# Altium schematic symbol library Schlib.SchLib: 35 symbols
Pins are listed as number, name and electrical type; pins without a type are passive.

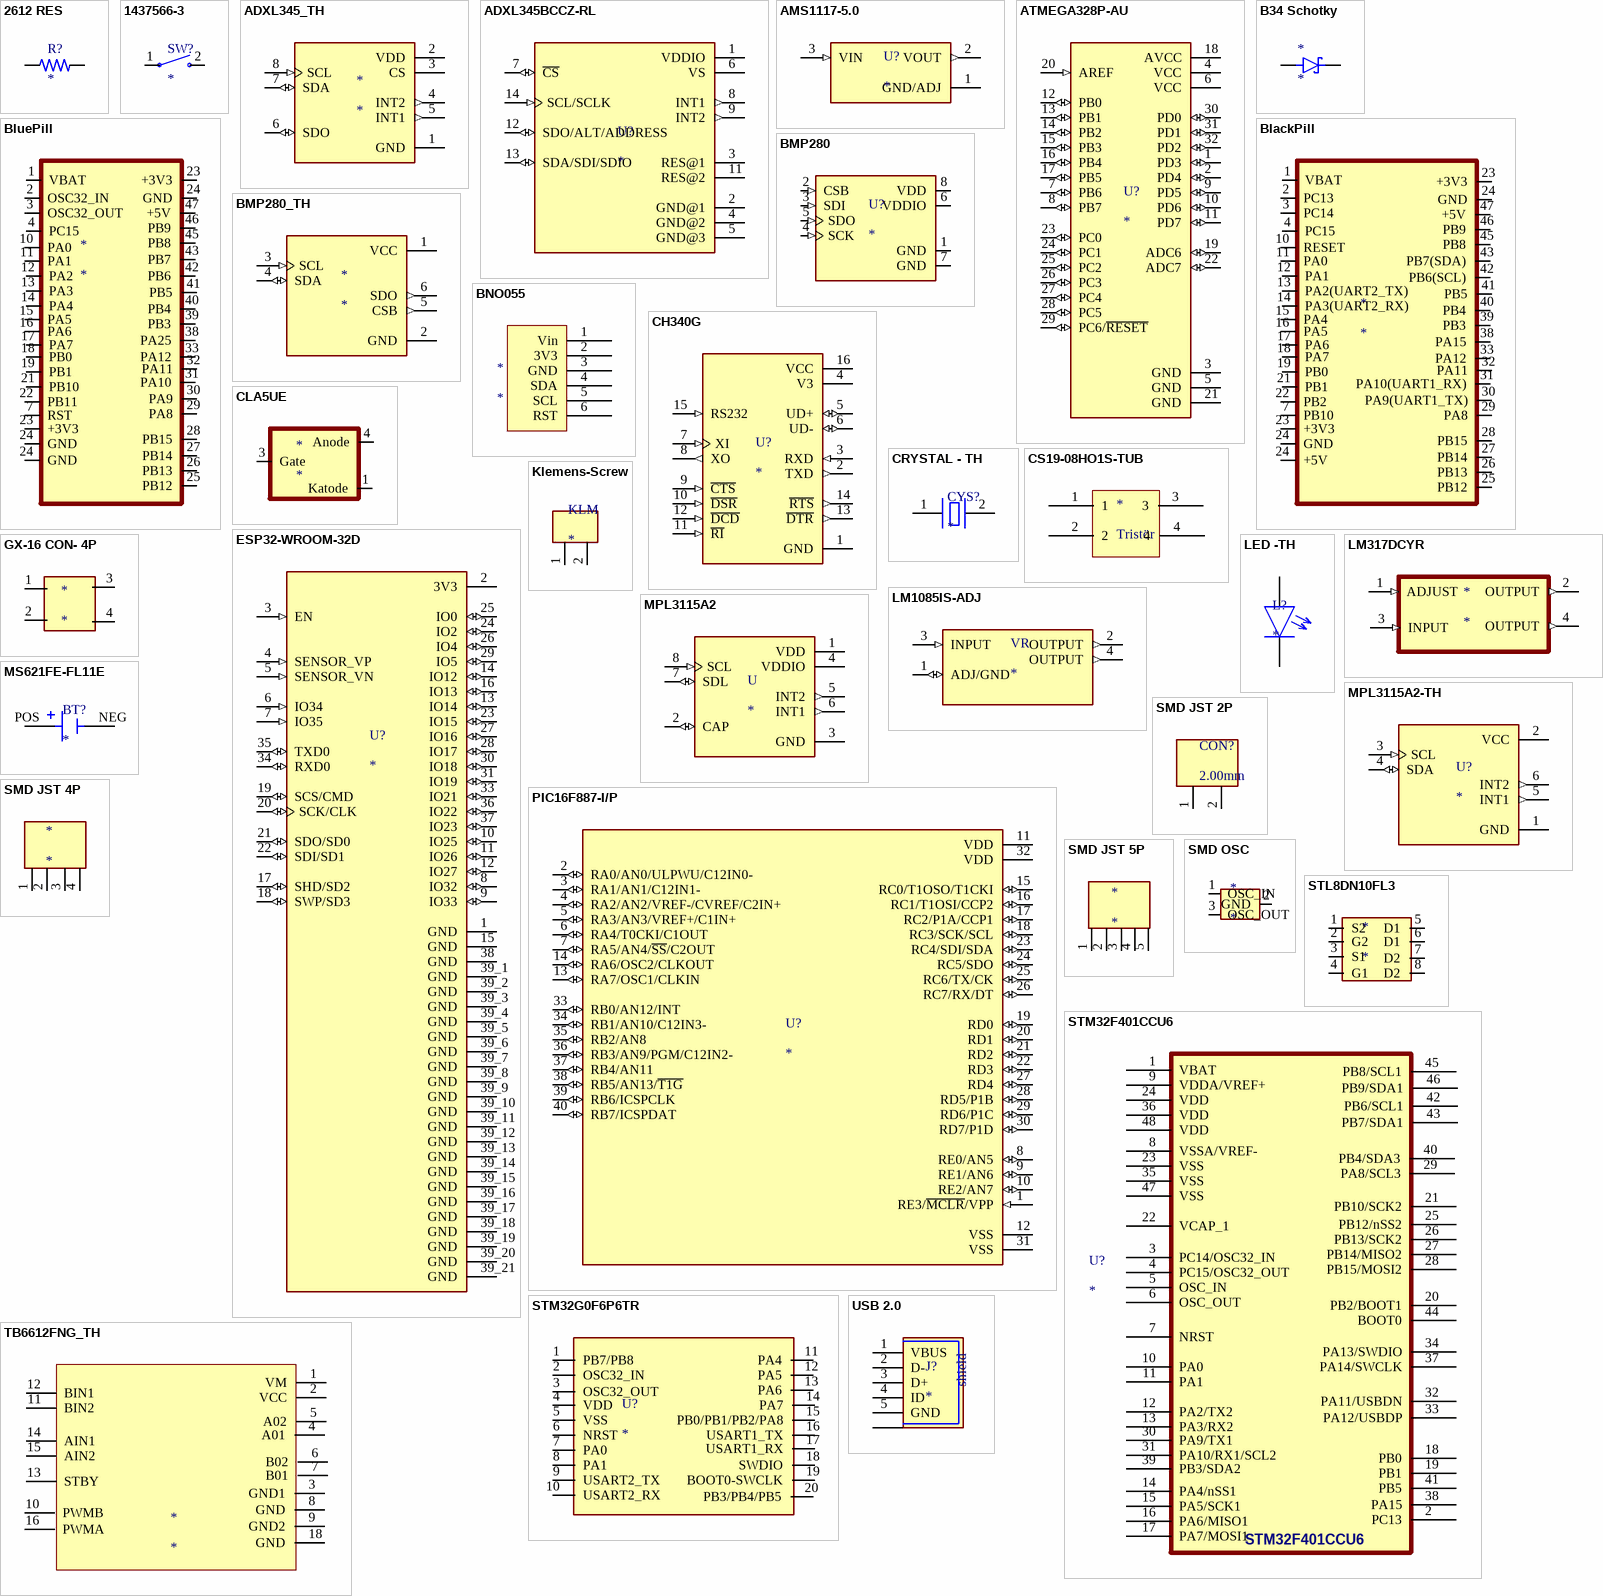
[diagram p0: symbols 2612 RES to USB 2.0]

## 2612 RES
designator R?
CRGV2512 1% 261K 1600V; MP: 6-1879539-9; Package: None; Price: None; Value: *; Availability: Unavailable
footprint RESC6331X70N
pins: 1, 2

## 1437566-3
designator SW?
Switch Tactile OFF (ON) SPST Rectangular Button Gull Wing 0.05A 12VDC SMD Loose Piece; MP: 1437566-3; Price: None; Value: *; Package: None; Availability: Unavailable
footprint SW_1437566-3
pins: 1, 2

## ADXL345_TH
designator *
footprint ADXL345
pins: 1 GND (power), 2 VDD (power), 3 CS (power), 4 INT2 (out), 5 INT1 (out), 6 SDO (io), 7 SDA (io), 8 SCL (in)

## ADXL345BCCZ-RL
designator U?
Accelerometer X, Y, Z Axis Â±2g, 4g, 8g, 16g 0.05Hz ~ 1.6kHz 14-LGA (3x5); MF: Analog Devices; MP: ADXL345BCCZ-RL; Check_prices: https://www.snapeda.com/parts/ADXL345BCCZ-RL/Analog%20Devices%20Inc./view-part/52306/?ref=eda; Value: *; Package: LGA -14 Analog Devices; Price: None; Purchase-URL: https://pricing.snapeda.com/search/part/ADXL345BCCZ-RL/?ref=eda; SnapEDA_Link: https://www.snapeda.com/parts/ADXL345BCCZ-RL/Analog%20Devices%20Inc./view-part/52306/?ref=snap; Availability: Warning
footprint PQFN80P300X500X79-14N
pins: 1 VDDIO (power), 2 GND@1 (power), 3 RES@1, 4 GND@2 (power), 5 GND@3 (power), 6 VS (power), 7 ~{CS} (io), 8 INT1 (out), 9 INT2 (out), 11 RES@2, 12 SDO/ALT/ADDRESS (io), 13 SDA/SDI/SDIO (io), 14 SCL/SCLK (in)

## AMS1117-5.0
designator U?
Sot223/Pkg 1-Amp 5-Volt Low Drop Out Voltage Regulatator; MP: AMS1117-5.0; MF: Advanced Monolithic Systems; SnapEDA_Link: https://www.snapeda.com/parts/AMS1117-5.0/Advanced+Monolithic+Systems/view-part/?ref=snap; Package: SOT-223 Seeed Technology; Check_prices: https://www.snapeda.com/parts/AMS1117-5.0/Advanced+Monolithic+Systems/view-part/?ref=eda; Price: None; Value: *; Availability: Not in stock
footprint SOT229P700X180-4N
pins: 1 GND/ADJ (power), 2 VOUT (out), 3 VIN (in)

## ATMEGA328P-AU
designator U?
AVR AVRÂ® ATmega Microcontroller IC 8-Bit 20MHz 32KB (16K x 16) FLASH 32-TQFP (7x7); MP: ATMEGA328P-AU; MF: Microchip Technology; Value: *; SnapEDA_Link: https://www.snapeda.com/parts/ATMEGA328P-AU/Microchip/view-part/?ref=snap; Purchase-URL: https://pricing.snapeda.com/search/part/ATMEGA328P-AU/?ref=eda; Check_prices: https://www.snapeda.com/parts/ATMEGA328P-AU/Microchip/view-part/?ref=eda; Availability: In Stock; Price: None; Package: TQFP-32 Microchip
footprint QFP80P900X900X120-32N
pins: 1 PD3 (io), 2 PD4 (io), 3 GND (power), 4 VCC (power), 5 GND (power), 6 VCC (power), 7 PB6 (io), 8 PB7 (io), 9 PD5 (io), 10 PD6 (io), 11 PD7 (io), 12 PB0 (io), 13 PB1 (io), 14 PB2 (io), 15 PB3 (io), 16 PB4 (io), 17 PB5 (io), 18 AVCC (power), 19 ADC6 (io), 20 AREF (in), 21 GND (power), 22 ADC7 (io), 23 PC0 (io), 24 PC1 (io), 25 PC2 (io), 26 PC3 (io), 27 PC4 (io), 28 PC5 (io), 29 PC6/~{RESET} (io), 30 PD0 (io), 31 PD1 (io), 32 PD2 (io)

## B34 Schotky
designator *
footprint DIOM5226X240N
pins: A, C

## BlackPill
designator *
footprint BLACKPILL
pins: 1 VBAT, 2 PC13, 3 PC14, 4 PC15, 7 PB10, 10 RESET, 11 PA0, 12 PA1, 13 PA2(UART2_TX), 14 PA3(UART2_RX), 15 PA4, 16 PA5, 17 PA6, 18 PA7, 19 PB0, 21 PB1, 22 PB2, 23 +3V3, 23 +3V3, 24 GND, 24 GND, 24 +5V, 25 PB12, 26 PB13, 27 PB14, 28 PB15, 29 PA8, 30 PA9(UART1_TX), 31 PA10(UART1_RX), 32 PA11, 33 PA12, 38 PA15, 39 PB3, 40 PB4, 41 PB5, 42 PB6(SCL), 43 PB7(SDA), 45 PB8, 46 PB9, 47 +5V

## BluePill
designator *
footprint BLUEPILL
pins: 1 VBAT, 2 OSC32_IN, 3 OSC32_OUT, 4 PC15, 7 RST, 10 PA0, 11 PA1, 12 PA2, 13 PA3, 14 PA4, 15 PA5, 16 PA6, 17 PA7, 18 PB0, 19 PB1, 21 PB10, 22 PB11, 23 +3V3, 23 +3V3, 24 GND, 24 GND, 24 GND, 25 PB12, 26 PB13, 27 PB14, 28 PB15, 29 PA8, 30 PA9, 31 PA10, 32 PA11, 33 PA12, 38 PA25, 39 PB3, 40 PB4, 41 PB5, 42 PB6, 43 PB7, 45 PB8, 46 PB9, 47 +5V

## BMP280
designator U?
BMP280 Absolute Barometric Pressure Sensor for Battery Powered Devices 2 x 2.5mm; Package: None; Availability: Unavailable; MP: BMP280; Value: *; Price: None
footprint XDCR_BMP280
pins: 1 GND (power), 2 CSB (in), 3 SDI (in), 4 SCK (in), 5 SDO (in), 6 VDDIO (power), 7 GND (power), 8 VDD (power)

## BMP280_TH
designator *
footprint BMP280_TH
pins: 1 VCC (power), 2 GND (power), 3 SCL (in), 4 SDA (io), 5 CSB (out), 6 SDO (out)

## BNO055
designator *
footprint BNO055
pins: 1 Vin, 2 3V3, 3 GND, 4 SDA, 5 SCL, 6 RST

## CH340G
designator U?
USB Interface Integrated Circuit; MP: Ch340G; MF: WCH; Value: *; SnapEDA_Link: https://www.snapeda.com/parts/Ch340G/WCH/view-part/?ref=snap; Check_prices: https://www.snapeda.com/parts/Ch340G/WCH/view-part/?ref=eda; Availability: Not in stock; Price: None; Package: None
footprint SOIC127P600X180-16N
pins: 1 GND (power), 2 TXD (out), 3 RXD (in), 4 V3 (power), 5 UD+ (io), 6 UD- (io), 7 XI (in), 8 XO (out), 9 ~{CTS} (in), 10 ~{DSR} (in), 11 ~{RI} (in), 12 ~{DCD} (in), 13 ~{DTR} (out), 14 ~{RTS} (out), 15 RS232 (in), 16 VCC (power)

## CLA5UE
designator *
footprint DPAK229P990X239-4N
pins: 1 Katode, 3 Gate, 4 Anode

## CRYSTAL - TH
designator CYS?
Smd tipi kristal
footprint Kristal - HC-49Us -th
pins: 1, 2

## CS19-08HO1S-TUB
designator *, comment Tristör
pins: 1, 2, 3, 4

## ESP32-WROOM-32D
designator U?
Bluetooth, WiFi 802.11b/g/n, Bluetooth v4.2 +EDR, Class 1, 2 and 3 Transceiver Module 2.4GHz ~ 2.5GHz Integrated; MP: ESP32-WROOM-32D; MF: Espressif Systems; Price: None; Availability: In Stock; Package: Module Espressif Systems; Value: *; SnapEDA_Link: https://www.snapeda.com/parts/ESP32-WROOM-32D/Espressif+Systems/view-part/?ref=snap; Purchase-URL: https://pricing.snapeda.com/search/part/ESP32-WROOM-32D/?ref=eda; Check_prices: https://www.snapeda.com/parts/ESP32-WROOM-32D/Espressif+Systems/view-part/?ref=eda
footprint MODULE_ESP32-WROOM-32D
pins: 1 GND (power), 2 3V3 (power), 3 EN (in), 4 SENSOR_VP (in), 5 SENSOR_VN (in), 6 IO34 (in), 7 IO35 (in), 8 IO32 (io), 9 IO33 (io), 10 IO25 (io), 11 IO26 (io), 12 IO27 (io), 13 IO14 (io), 14 IO12 (io), 15 GND (power), 16 IO13 (io), 17 SHD/SD2 (io), 18 SWP/SD3 (io), 19 SCS/CMD (io), 20 SCK/CLK (io), 21 SDO/SD0 (io), 22 SDI/SD1 (io), 23 IO15 (io), 24 IO2 (io), 25 IO0 (io), 26 IO4 (io), 27 IO16 (io), 28 IO17 (io), 29 IO5 (io), 30 IO18 (io), 31 IO19 (io), 33 IO21 (io), 34 RXD0 (io), 35 TXD0 (io), 36 IO22 (io), 37 IO23 (io), 38 GND (power), 39_1 GND (power), 39_2 GND (power), 39_3 GND (power), 39_4 GND (power), 39_5 GND (power), 39_6 GND (power), 39_7 GND (power), 39_8 GND (power), 39_9 GND (power), 39_10 GND (power), 39_11 GND (power), 39_12 GND (power), 39_13 GND (power), 39_14 GND (power), 39_15 GND (power), 39_16 GND (power), 39_17 GND (power), 39_18 GND (power), 39_19 GND (power), 39_20 GND (power), 39_21 GND (power)

## GX-16 CON- 4P
designator *
footprint GX-16 CON
pins: 1 3, 2 4, 3 4, 4 6

## Klemens-Screw
designator KLM
ComponentLink1Description: New link; ComponentLink1URL: *
footprint Klemens-ScrewMount
pins: 1, 2

## LED -TH
designator L?
footprint LED - TH
pins: 1, 2

## LM317DCYR
designator *
footprint SOT230P700X180-4N
pins: 1 ADJUST (in), 2 OUTPUT (out), 3 INPUT (in), 4 OUTPUT (out)

## LM1085IS-ADJ
designator VR
3-A, 29-V, linear voltage regulator 3-DDPAK/TO-263; MP: LM1085IS-ADJ; MF: Texas Instruments; SnapEDA_Link: https://www.snapeda.com/parts/LM1085IS-ADJ/Texas%20Instruments/view-part/213969/?ref=snap; Price: None; Availability: Unavailable; Mouser-Purchase-URL: https://snapeda.com/shop?store=Mouser&id=213969; Value: *; Arrow_Electronics-Purchase-URL: https://snapeda.com/shop?store=Arrow+Electronics&id=213969; DigiKey-Purchase-URL: https://snapeda.com/shop?store=DigiKey&id=213969; Package: TO-263-3 Texas Instruments
footprint TO254P1524X483-4N
pins: 1 ADJ/GND (io), 2 OUTPUT (out), 3 INPUT (in), 4 OUTPUT (out)

## MPL3115A2
designator U
Pressure Sensor 7.25PSI ~ 15.95PSI _50kPa ~ 110kPa_ Absolute 24 b 8-TLGA; MP: MPL3115A2; MF: NXP USA; SnapEDA_Link: https://www.snapeda.com/parts/MPL3115A2/NXP%20USA%20Inc./view-part/472433/?ref=snap; Availability: Unavailable; Price: None; Package: LGA-8 NXP USA; Value: *
footprint PSON125P300X500X120-8N
pins: 1 VDD (power), 2 CAP (io), 3 GND (power), 4 VDDIO (power), 5 INT2 (out), 6 INT1 (out), 7 SDL (io), 8 SCL (in)

## MPL3115A2-TH
designator U?
footprint MPL3115A2
pins: 1 GND (power), 2 VCC (power), 3 SCL (in), 4 SDA (io), 5 INT1 (out), 6 INT2 (out)

## MS621FE-FL11E
designator BT?
Coin, 6.8mm 3V Lithium Battery Rechargeable (Secondary) 5.5mAh; MP: MS621FE-FL11E; MF: Seiko Instruments; SnapEDA_Link: https://www.snapeda.com/parts/MS621FE-FL11E/Seiko%20Instruments/view-part/6886595/?ref=snap; Availability: In Stock; Price: None; Check_prices: https://www.snapeda.com/parts/MS621FE-FL11E/Seiko%20Instruments/view-part/6886595/?ref=eda; Value: *; Purchase-URL: https://pricing.snapeda.com/search/part/MS621FE-FL11E/?ref=eda; Package: QFP-128 Seiko
footprint BAT_MS621FE-FL11E
pins: NEG, POS

## PIC16F887-I/P
designator U?
MCU, 8-Bit, 14KB Flash, 368 RAM, 36 I/O, PDIP-40, PIC 16F Series | Microchip Technology Inc. PIC16F887-I/P; SnapEDA_Link: https://www.snapeda.com/parts/PIC16F887-I/P/Microchip/view-part/?ref=snap; Package: PDIP-40 Microchip; Value: *; MF: Microchip; MP: PIC16F887-I/P; Check_prices: https://www.snapeda.com/parts/PIC16F887-I/P/Microchip/view-part/?ref=eda
footprint PIC_ZIF_SOCKET
pins: 1 RE3/~{MCLR}/VPP (in), 2 RA0/AN0/ULPWU/C12IN0- (io), 3 RA1/AN1/C12IN1- (io), 4 RA2/AN2/VREF-/CVREF/C2IN+ (io), 5 RA3/AN3/VREF+/C1IN+ (io), 6 RA4/T0CKI/C1OUT (io), 7 RA5/AN4/~{SS}/C2OUT (io), 8 RE0/AN5 (io), 9 RE1/AN6 (io), 10 RE2/AN7 (io), 11 VDD (power), 12 VSS (power), 13 RA7/OSC1/CLKIN (io), 14 RA6/OSC2/CLKOUT (io), 15 RC0/T1OSO/T1CKI (io), 16 RC1/T1OSI/CCP2 (io), 17 RC2/P1A/CCP1 (io), 18 RC3/SCK/SCL (io), 19 RD0 (io), 20 RD1 (io), 21 RD2 (io), 22 RD3 (io), 23 RC4/SDI/SDA (io), 24 RC5/SDO (io), 25 RC6/TX/CK (io), 26 RC7/RX/DT (io), 27 RD4 (io), 28 RD5/P1B (io), 29 RD6/P1C (io), 30 RD7/P1D (io), 31 VSS (power), 32 VDD (power), 33 RB0/AN12/INT (io), 34 RB1/AN10/C12IN3- (io), 35 RB2/AN8 (io), 36 RB3/AN9/PGM/C12IN2- (io), 37 RB4/AN11 (io), 38 RB5/AN13/~{T1G} (io), 39 RB6/ICSPCLK (io), 40 RB7/ICSPDAT (io)

## SMD JST 2P
designator CON?, comment 2.00mm
footprint SMD_JST
pins: 1, 2

## SMD JST 4P
designator *
footprint L-KLS1-XL1-4P
pins: 1, 2, 3, 4

## SMD JST 5P
designator *
pins: 1, 2, 3, 4, 5

## SMD OSC
designator *
pins: 1 OSC_IN, 2 GND, 3 OSC_OUT

## STL8DN10FL3
designator *
footprint TRANS_STL60P4LLF6
pins: 1 S2, 2 G2, 3 S1, 4 G1, 5 D1, 6 D1, 7 D2, 8 D2

## STM32F401CCU6
designator U?
footprint UFQFPN48
pins: 1 VBAT, 2 PC13, 3 PC14/OSC32_IN, 4 PC15/OSC32_OUT, 5 OSC_IN, 6 OSC_OUT, 7 NRST, 8 VSSA/VREF-, 9 VDDA/VREF+, 10 PA0, 11 PA1, 12 PA2/TX2, 13 PA3/RX2, 14 PA4/nSS1, 15 PA5/SCK1, 16 PA6/MISO1, 17 PA7/MOSI1, 18 PB0, 19 PB1, 20 PB2/BOOT1, 21 PB10/SCK2, 22 VCAP_1, 23 VSS, 24 VDD, 25 PB12/nSS2, 26 PB13/SCK2, 27 PB14/MISO2, 28 PB15/MOSI2, 29 PA8/SCL3, 30 PA9/TX1, 31 PA10/RX1/SCL2, 32 PA11/USBDN, 33 PA12/USBDP, 34 PA13/SWDIO, 35 VSS, 36 VDD, 37 PA14/SWCLK, 38 PA15, 39 PB3/SDA2, 40 PB4/SDA3, 41 PB5, 42 PB6/SCL1, 43 PB7/SDA1, 44 BOOT0, 45 PB8/SCL1, 46 PB9/SDA1, 47 VSS, 48 VDD

## STM32G0F6P6TR
designator U?
footprint TSSOP-20
pins: 1 PB7/PB8, 2 OSC32_IN, 3 OSC32_OUT, 4 VDD, 5 VSS, 6 NRST, 7 PA0, 8 PA1, 9 USART2_TX, 10 USART2_RX, 11 PA4, 12 PA5, 13 PA6, 14 PA7, 15 PB0/PB1/PB2/PA8, 16 USART1_TX, 17 USART1_RX, 18 SWDIO, 19 BOOT0-SWCLK, 20 PB3/PB4/PB5

## TB6612FNG_TH
designator *
footprint HW-166
pins: 1 VM, 2 VCC, 3 GND1, 4 A01, 5 A02, 6 B02, 7 B01, 8 GND, 9 GND2, 10 PWMB, 11 BIN2, 12 BIN1, 13 STBY, 14 AIN1, 15 AIN2, 16 PWMA, 18 GND

## USB 2.0
designator J?
USB - mini B USB 2.0 Receptacle Connector 5 Position Surface Mount, Right Angle; MP: 65100516121; MF: WÃ¼rth Elektronik; Purchase-URL: https://pricing.snapeda.com/search/part/65100516121/?ref=eda; SnapEDA_Link: https://www.snapeda.com/parts/65100516121/Wurth+Elektronik/view-part/?ref=snap; Price: None; Package: None; Value: *; Check_prices: https://www.snapeda.com/parts/65100516121/Wurth+Elektronik/view-part/?ref=eda; Availability: In Stock
footprint 65100516121
pins: 1 VBUS, 2 D-, 3 D+, 4 ID, 5 GND, S1 SHIELD, S2 SHIELD, S3 SHIELD, S4 SHIELD
text: shield